# Altium integrated library NSC Comparator.IntLib: 93 symbols (part 2 of 3)
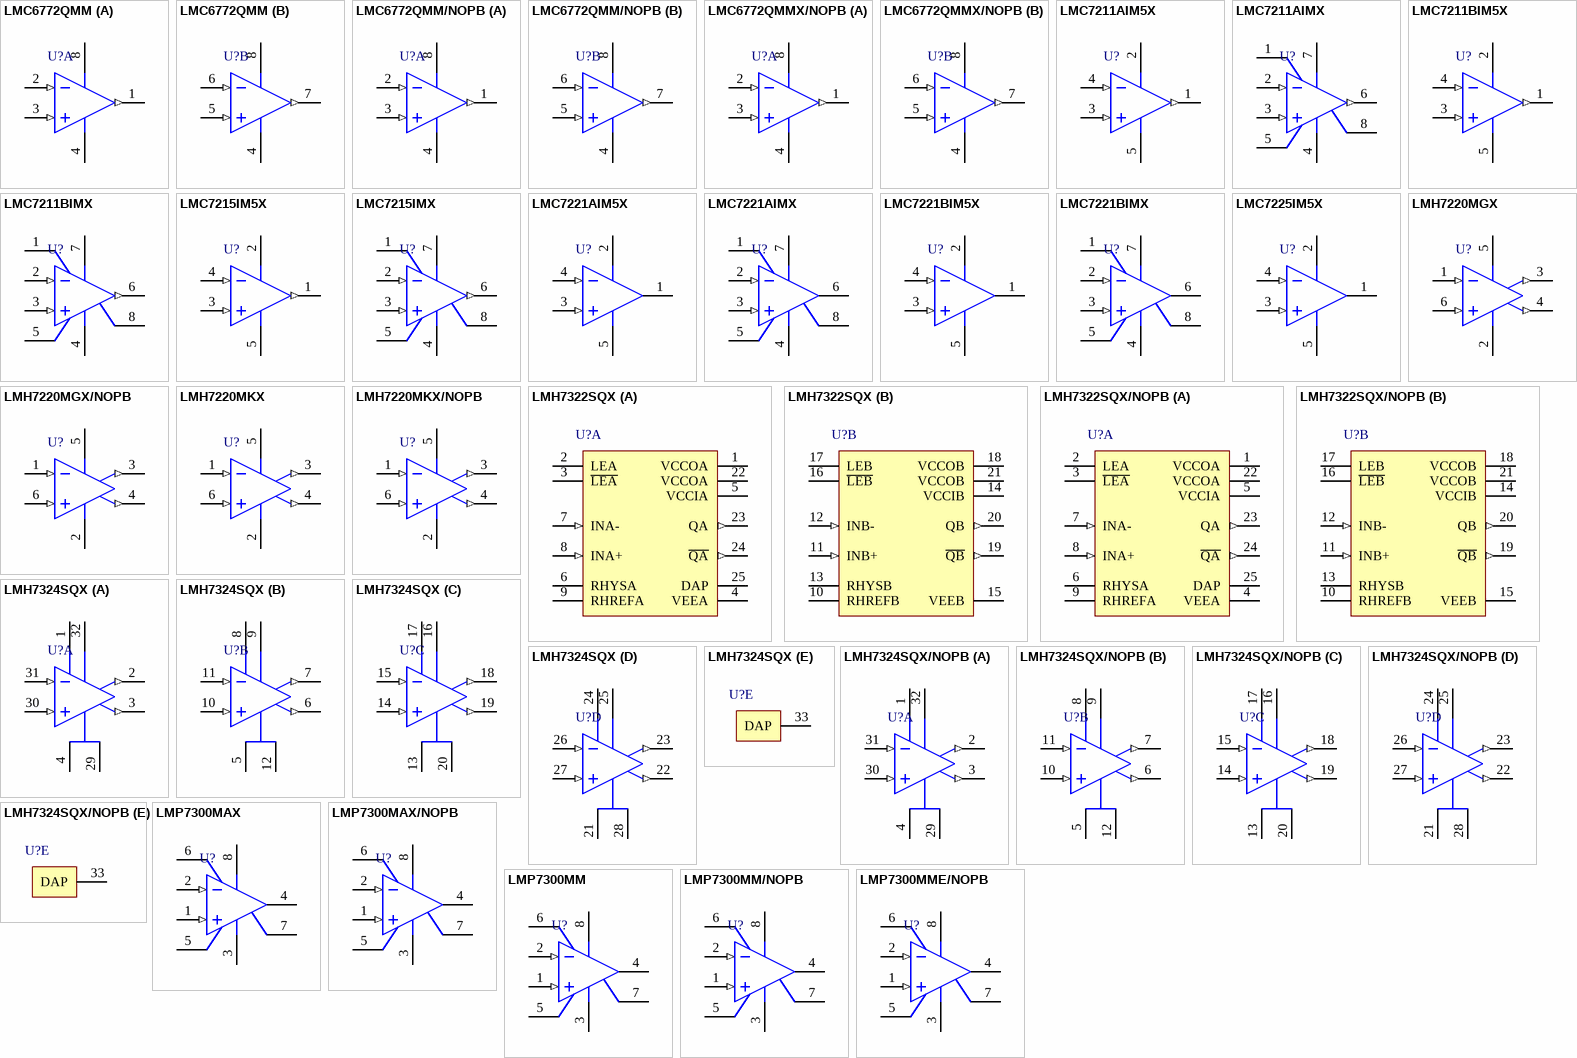
[diagram p5: symbols LMC6772QMM to LMP7300MME/NOPB]

## LMC7211BIMX
designator U?
Tiny CMOS Comparator with Rail-to-Rail Input, 8-pin Narrow SOIC; PartNumber: LMC7211BIMX; Manufacturer: National Semiconductor; PackageTopMarking: NSZXTT*LMC72*11BIM; PowerWise: N; Published: 4-Dec-2008; DatasheetVersion: Jan-2010; PackageVersion: revM, May-2009; PackageReference: M08A; Publisher: Altium Limited; PackageDescription: SOIC Narrow, 4.9 x 3.9 x 1.45mm, 8 Lead, 1.27mm Pitch; RoHS: N; PinCount: 8; CompType: Comparator; Code_JEDEC: MS-012-AA; Code_IPC: SOIC127P600-8; ComponentLink1Description: LMC7211 Datasheet; ComponentLink1URL: http://www.national.com/ds/LM/LMC7211.pdf; ComponentLink2Description: LMC7211 Web Page; ComponentLink2URL: http://www.national.com/pf/LM/LMC7211.html; ComponentLink3Description: M08A Package Page; ComponentLink3URL: http://www.national.com/packaging/folders/m08a.html
footprint M08A_N (SOIC, 8-Leads, Body 4.9x3.9mm, Pitch 1.27mm, IPC Medium Density)
footprint M08A_L (SOIC, 8-Leads, Body 4.9x3.9mm, Pitch 1.27mm, IPC High Density)
footprint M08A_M (SOIC, 8-Leads, Body 4.9x3.9mm, Pitch 1.27mm, IPC Low Density)
pins: 1 NC, 2 IN- (in), 3 IN+ (in), 4 V- (power), 5 NC, 6 OUT (out), 7 V+ (power), 8 NC

## LMC7215IM5X
designator U?
Micro-Power, Rail-to-Rail CMOS Comparators with Open-Drain/Push-Pull Outputs, 5-pin SOT-23; PartNumber: LMC7215IM5X; Manufacturer: National Semiconductor; PackageTopMarking: C02B*XTT; PowerWise: Y; Published: 4-Dec-2008; DatasheetVersion: Sep-2006; PackageVersion: revD, Aug-2008; PackageReference: MF05A; Publisher: Altium Limited; PackageDescription: Molded SOT-23, .115 x .063 x .040 in Body, 5 Lead, .0375 in Pitch; RoHS: N; PinCount: 5; CompType: Comparator; ComponentLink1Description: LMC7215 Datasheet; ComponentLink1URL: http://www.national.com/ds/LM/LMC7215.pdf; ComponentLink2Description: LMC7215 Web Page; ComponentLink2URL: http://www.national.com/pf/LM/LMC7215.html; ComponentLink3Description: MF05A Package Page; ComponentLink3URL: http://www.national.com/packaging/folders/mf05a.html
footprint MF05A_N (SOT23, 5-Leads, Body 2.9x1.6mm, Pitch 0.95mm, Lead Span 2.8mm, IPC Medium Density)
footprint MF05A_L (SOT23, 5-Leads, Body 2.9x1.6mm, Pitch 0.95mm, Lead Span 2.8mm, IPC High Density)
footprint MF05A_M (SOT23, 5-Leads, Body 2.9x1.6mm, Pitch 0.95mm, Lead Span 2.8mm, IPC Low Density)
pins: 1 OUT (out), 2 V+ (power), 3 IN+ (in), 4 IN- (in), 5 V- (power)

## LMC7215IMX
designator U?
Micro-Power, Rail-to-Rail CMOS Comparators with Open-Drain/Push-Pull Outputs, 8-pin Narrow SOIC; PartNumber: LMC7215IMX; Manufacturer: National Semiconductor; PackageTopMarking: NSZXTT*LMC72*15IM; PowerWise: Y; Published: 4-Dec-2008; DatasheetVersion: Sep-2006; PackageVersion: revM, May-2009; PackageReference: M08A; Publisher: Altium Limited; PackageDescription: SOIC Narrow, 4.9 x 3.9 x 1.45mm, 8 Lead, 1.27mm Pitch; RoHS: N; PinCount: 8; CompType: Comparator; Code_JEDEC: MS-012-AA; Code_IPC: SOIC127P600-8; ComponentLink1Description: LMC7215 Datasheet; ComponentLink1URL: http://www.national.com/ds/LM/LMC7215.pdf; ComponentLink2Description: LMC7215 Web Page; ComponentLink2URL: http://www.national.com/pf/LM/LMC7215.html; ComponentLink3Description: M08A Package Page; ComponentLink3URL: http://www.national.com/packaging/folders/m08a.html
footprint M08A_N (SOIC, 8-Leads, Body 4.9x3.9mm, Pitch 1.27mm, IPC Medium Density)
footprint M08A_L (SOIC, 8-Leads, Body 4.9x3.9mm, Pitch 1.27mm, IPC High Density)
footprint M08A_M (SOIC, 8-Leads, Body 4.9x3.9mm, Pitch 1.27mm, IPC Low Density)
pins: 1 NC, 2 IN- (in), 3 IN+ (in), 4 V- (power), 5 NC, 6 OUT (out), 7 V+ (power), 8 NC

## LMC7221AIM5X
designator U?
Tiny CMOS Comparator with Rail-to-Rail Input and Open Drain Output, 5-pin SOT-23; PartNumber: LMC7221AIM5X; Manufacturer: National Semiconductor; PackageTopMarking: C01A*XTT; PowerWise: N; Published: 4-Dec-2008; DatasheetVersion: Sep-2006; PackageVersion: revD, Aug-2008; PackageReference: MF05A; Publisher: Altium Limited; PackageDescription: Molded SOT-23, .115 x .063 x .040 in Body, 5 Lead, .0375 in Pitch; RoHS: N; PinCount: 5; CompType: Comparator; ComponentLink1Description: LMC7221 Datasheet; ComponentLink1URL: http://www.national.com/ds/LM/LMC7221.pdf; ComponentLink2Description: LMC7221 Web Page; ComponentLink2URL: http://www.national.com/pf/LM/LMC7221.html; ComponentLink3Description: MF05A Package Page; ComponentLink3URL: http://www.national.com/packaging/folders/mf05a.html
footprint MF05A_N (SOT23, 5-Leads, Body 2.9x1.6mm, Pitch 0.95mm, Lead Span 2.8mm, IPC Medium Density)
footprint MF05A_L (SOT23, 5-Leads, Body 2.9x1.6mm, Pitch 0.95mm, Lead Span 2.8mm, IPC High Density)
footprint MF05A_M (SOT23, 5-Leads, Body 2.9x1.6mm, Pitch 0.95mm, Lead Span 2.8mm, IPC Low Density)
pins: 1 OUT (oc), 2 V+ (power), 3 IN+ (in), 4 IN- (in), 5 V- (power)

## LMC7221AIMX
designator U?
Tiny CMOS Comparator with Rail-to-Rail Input and Open Drain Output, 8-pin Narrow SOIC; PartNumber: LMC7221AIMX; Manufacturer: National Semiconductor; PackageTopMarking: NSZXTT*LMC72*21AIM; PowerWise: N; Published: 4-Dec-2008; DatasheetVersion: Sep-2006; PackageVersion: revM, May-2009; PackageReference: M08A; Publisher: Altium Limited; PackageDescription: SOIC Narrow, 4.9 x 3.9 x 1.45mm, 8 Lead, 1.27mm Pitch; RoHS: N; PinCount: 8; CompType: Comparator; Code_JEDEC: MS-012-AA; Code_IPC: SOIC127P600-8; ComponentLink1Description: LMC7221 Datasheet; ComponentLink1URL: http://www.national.com/ds/LM/LMC7221.pdf; ComponentLink2Description: LMC7221 Web Page; ComponentLink2URL: http://www.national.com/pf/LM/LMC7221.html; ComponentLink3Description: M08A Package Page; ComponentLink3URL: http://www.national.com/packaging/folders/m08a.html
footprint M08A_N (SOIC, 8-Leads, Body 4.9x3.9mm, Pitch 1.27mm, IPC Medium Density)
footprint M08A_L (SOIC, 8-Leads, Body 4.9x3.9mm, Pitch 1.27mm, IPC High Density)
footprint M08A_M (SOIC, 8-Leads, Body 4.9x3.9mm, Pitch 1.27mm, IPC Low Density)
pins: 1 NC, 2 IN- (in), 3 IN+ (in), 4 V- (power), 5 NC, 6 OUT (oc), 7 V+ (power), 8 NC

## LMC7221BIM5X
designator U?
Tiny CMOS Comparator with Rail-to-Rail Input and Open Drain Output, 5-pin SOT-23; PartNumber: LMC7221BIM5X; Manufacturer: National Semiconductor; PackageTopMarking: C01B*XTT; PowerWise: N; Published: 4-Dec-2008; DatasheetVersion: Sep-2006; PackageVersion: revD, Aug-2008; PackageReference: MF05A; Publisher: Altium Limited; PackageDescription: Molded SOT-23, .115 x .063 x .040 in Body, 5 Lead, .0375 in Pitch; RoHS: N; PinCount: 5; CompType: Comparator; ComponentLink1Description: LMC7221 Datasheet; ComponentLink1URL: http://www.national.com/ds/LM/LMC7221.pdf; ComponentLink2Description: LMC7221 Web Page; ComponentLink2URL: http://www.national.com/pf/LM/LMC7221.html; ComponentLink3Description: MF05A Package Page; ComponentLink3URL: http://www.national.com/packaging/folders/mf05a.html
footprint MF05A_N (SOT23, 5-Leads, Body 2.9x1.6mm, Pitch 0.95mm, Lead Span 2.8mm, IPC Medium Density)
footprint MF05A_L (SOT23, 5-Leads, Body 2.9x1.6mm, Pitch 0.95mm, Lead Span 2.8mm, IPC High Density)
footprint MF05A_M (SOT23, 5-Leads, Body 2.9x1.6mm, Pitch 0.95mm, Lead Span 2.8mm, IPC Low Density)
pins: 1 OUT (oc), 2 V+ (power), 3 IN+ (in), 4 IN- (in), 5 V- (power)

## LMC7221BIMX
designator U?
Tiny CMOS Comparator with Rail-to-Rail Input and Open Drain Output, 8-pin Narrow SOIC; PartNumber: LMC7221BIMX; Manufacturer: National Semiconductor; PackageTopMarking: NSZXTT*LMC72*21BIM; PowerWise: N; Published: 4-Dec-2008; DatasheetVersion: Sep-2006; PackageVersion: revM, May-2009; PackageReference: M08A; Publisher: Altium Limited; PackageDescription: SOIC Narrow, 4.9 x 3.9 x 1.45mm, 8 Lead, 1.27mm Pitch; Supplier 1: Digi-Key; Supplier Part Number 1: LMC7221BIMX-ND; RoHS: N; PinCount: 8; CompType: Comparator; Code_JEDEC: MS-012-AA; Code_IPC: SOIC127P600-8; ComponentLink1Description: LMC7221 Datasheet; ComponentLink1URL: http://www.national.com/ds/LM/LMC7221.pdf; ComponentLink2Description: LMC7221 Web Page; ComponentLink2URL: http://www.national.com/pf/LM/LMC7221.html; ComponentLink3Description: M08A Package Page; ComponentLink3URL: http://www.national.com/packaging/folders/m08a.html
footprint M08A_N (SOIC, 8-Leads, Body 4.9x3.9mm, Pitch 1.27mm, IPC Medium Density)
footprint M08A_L (SOIC, 8-Leads, Body 4.9x3.9mm, Pitch 1.27mm, IPC High Density)
footprint M08A_M (SOIC, 8-Leads, Body 4.9x3.9mm, Pitch 1.27mm, IPC Low Density)
pins: 1 NC, 2 IN- (in), 3 IN+ (in), 4 V- (power), 5 NC, 6 OUT (oc), 7 V+ (power), 8 NC

## LMC7225IM5X
designator U?
Micro-Power, Rail-to-Rail CMOS Comparators with Open-Drain/Push-Pull Outputs, 5-pin SOT-23; PartNumber: LMC7225IM5X; Manufacturer: National Semiconductor; PackageTopMarking: C03B*XTT; PowerWise: Y; Published: 4-Dec-2008; DatasheetVersion: Sep-2006; PackageVersion: revD, Aug-2008; PackageReference: MF05A; Publisher: Altium Limited; PackageDescription: Molded SOT-23, .115 x .063 x .040 in Body, 5 Lead, .0375 in Pitch; RoHS: N; PinCount: 5; CompType: Comparator; ComponentLink1Description: LMC7225 Datasheet; ComponentLink1URL: http://www.national.com/ds/LM/LMC7225.pdf; ComponentLink2Description: LMC7225 Web Page; ComponentLink2URL: http://www.national.com/pf/LM/LMC7225.html; ComponentLink3Description: MF05A Package Page; ComponentLink3URL: http://www.national.com/packaging/folders/mf05a.html
footprint MF05A_N (SOT23, 5-Leads, Body 2.9x1.6mm, Pitch 0.95mm, Lead Span 2.8mm, IPC Medium Density)
footprint MF05A_L (SOT23, 5-Leads, Body 2.9x1.6mm, Pitch 0.95mm, Lead Span 2.8mm, IPC High Density)
footprint MF05A_M (SOT23, 5-Leads, Body 2.9x1.6mm, Pitch 0.95mm, Lead Span 2.8mm, IPC Low Density)
pins: 1 OUT (oc), 2 V+ (power), 3 IN+ (in), 4 IN- (in), 5 V- (power)

## LMH7220MGX
designator U?
High Speed Comparator with LVDS Output, 6-pin SC-70; PartNumber: LMH7220MGX; Manufacturer: National Semiconductor; PackageTopMarking: C38*XTT; PowerWise: Y; Published: 4-Dec-2008; DatasheetVersion: May-2008; PackageVersion: revB, Jun-2007; PackageReference: MAA06A; Publisher: Altium Limited; PackageDescription: Molded SC-70, 2 x 1.25 x .9mm, 6 Lead, 0.65mm Pitch; RoHS: Y; PinCount: 6; CompType: Comparator; ComponentLink1Description: LMH7220 Datasheet; ComponentLink1URL: http://www.national.com/ds/LM/LMH7220.pdf; ComponentLink2Description: LMH7220  Web Page; ComponentLink2URL: http://www.national.com/pf/LM/LMH7220.html; ComponentLink3Description: MAA06A Package Page; ComponentLink3URL: http://www.national.com/packaging/folders/maa06a.html
footprint MAA06A_N (SOT363, 6-Leads, Body 2x1.3mm, Pitch 0.65mm, Lead Span 2.1mm, IPC Medium Density)
footprint MAA06A_L (SOT363, 6-Leads, Body 2x1.3mm, Pitch 0.65mm, Lead Span 2.1mm, IPC High Density)
footprint MAA06A_M (SOT363, 6-Leads, Body 2x1.3mm, Pitch 0.65mm, Lead Span 2.1mm, IPC Low Density)
pins: 1 IN- (in), 2 GND (power), 3 OUT ~{Q} (out), 4  OUT Q (out), 5 VCC (power), 6 IN+ (in)

## LMH7220MGX/NOPB
designator U?
High Speed Comparator with LVDS Output, 6-pin SC-70, Pb-Free; PartNumber: LMH7220MGX/NOPB; Manufacturer: National Semiconductor; PackageTopMarking: C38*XTT; PowerWise: Y; Published: 1-Mar-2010; DatasheetVersion: May-2008; PackageVersion: revB, Jun-2007; PackageReference: MAA06A; Publisher: Altium Limited; PackageDescription: Molded SC-70, 2 x 1.25 x .9mm, 6 Lead, 0.65mm Pitch; Supplier 1: Digi-Key; Supplier Part Number 1: LMH7220MGX-ND; RoHS: Y; PinCount: 6; CompType: Comparator; ComponentLink1Description: LMH7220 Datasheet; ComponentLink1URL: http://www.national.com/ds/LM/LMH7220.pdf; ComponentLink2Description: LMH7220 Web Page; ComponentLink2URL: http://www.national.com/pf/LM/LMH7220.html; ComponentLink3Description: MAA06A Package Page; ComponentLink3URL: http://www.national.com/packaging/folders/maa06a.html
footprint MAA06A_N (SOT363, 6-Leads, Body 2x1.3mm, Pitch 0.65mm, Lead Span 2.1mm, IPC Medium Density)
footprint MAA06A_L (SOT363, 6-Leads, Body 2x1.3mm, Pitch 0.65mm, Lead Span 2.1mm, IPC High Density)
footprint MAA06A_M (SOT363, 6-Leads, Body 2x1.3mm, Pitch 0.65mm, Lead Span 2.1mm, IPC Low Density)
pins: 1 IN- (in), 2 GND (power), 3 OUT ~{Q} (out), 4  OUT Q (out), 5 VCC (power), 6 IN+ (in)

## LMH7220MKX
designator U?
High Speed Comparator with LVDS Output, 6-pin Tiny SOT23; PartNumber: LMH7220MKX; Manufacturer: National Semiconductor; PackageTopMarking: C29A*XTT; PowerWise: Y; Published: 4-Dec-2008; DatasheetVersion: May-2008; PackageVersion: revE, Nov-2008; PackageReference: MK06A; Publisher: Altium Limited; PackageDescription: Molded TSOT, 2.97 x 1.65 x 0.87mm Body, 6 Lead, 0.95mm Pitch; RoHS: N; PinCount: 6; CompType: Comparator; Code_JEDEC: MO-193-AA; Code_IPC: SOT26A-6; ComponentLink1Description: LMH7220 Datasheet; ComponentLink1URL: http://www.national.com/ds/LM/LMH7220.pdf; ComponentLink2Description: LMH7220 Web Page; ComponentLink2URL: http://www.national.com/pf/LM/LMH7220.html; ComponentLink3Description: MK06A Package Page; ComponentLink3URL: http://www.national.com/packaging/folders/mk06a.html
footprint MK06A_N (SOT23, 6-Leads, Body 3.0x1.7mm, Pitch 0.95mm, Lead Span 2.9mm, IPC Medium Density)
footprint MK06A_L (SOT23, 6-Leads, Body 3.0x1.7mm, Pitch 0.95mm, Lead Span 2.9mm, IPC High Density)
footprint MK06A_M (SOT23, 6-Leads, Body 3.0x1.7mm, Pitch 0.95mm, Lead Span 2.9mm, IPC Low Density)
pins: 1 IN- (in), 2 GND (power), 3 OUT ~{Q} (out), 4  OUT Q (out), 5 VCC (power), 6 IN+ (in)

## LMH7220MKX/NOPB
designator U?
High Speed Comparator with LVDS Output, 6-pin Tiny SOT23, Pb-Free; PartNumber: LMH7220MKX/NOPB; Manufacturer: National Semiconductor; PackageTopMarking: C29A*XTT; PowerWise: Y; Published: 1-Mar-2010; DatasheetVersion: May-2008; PackageVersion: revE, Nov-2008; PackageReference: MK06A; Publisher: Altium Limited; PackageDescription: Molded TSOT, 2.97 x 1.65 x 0.87mm Body, 6 Lead, 0.95mm Pitch; Supplier 1: Digi-Key; Supplier Part Number 1: LMH7220MKX-ND; RoHS: Y; PinCount: 6; CompType: Comparator; Code_JEDEC: MO-193-AA; Code_IPC: SOT26A-6; ComponentLink1Description: LMH7220 Datasheet; ComponentLink1URL: http://www.national.com/ds/LM/LMH7220.pdf; ComponentLink2Description: LMH7220 Web Page; ComponentLink2URL: http://www.national.com/pf/LM/LMH7220.html; ComponentLink3Description: MK06A Package Page; ComponentLink3URL: http://www.national.com/packaging/folders/mk06a.html
footprint MK06A_N (SOT23, 6-Leads, Body 3.0x1.7mm, Pitch 0.95mm, Lead Span 2.9mm, IPC Medium Density)
footprint MK06A_L (SOT23, 6-Leads, Body 3.0x1.7mm, Pitch 0.95mm, Lead Span 2.9mm, IPC High Density)
footprint MK06A_M (SOT23, 6-Leads, Body 3.0x1.7mm, Pitch 0.95mm, Lead Span 2.9mm, IPC Low Density)
pins: 1 IN- (in), 2 GND (power), 3 OUT ~{Q} (out), 4  OUT Q (out), 5 VCC (power), 6 IN+ (in)

## LMH7322SQX
designator U?
Dual 700 ps High Speed Comparator with RSPECL Outputs, 25-pin LLP; PartNumber: LMH7322SQX; Manufacturer: National Semiconductor; PackageTopMarking: NS*UZXYTT*L7322SQ; PowerWise: Y; Published: 4-Dec-2008; DatasheetVersion: Jan-2010; PackageVersion: revB, Aug-2003; PackageReference: SQA24A; Publisher: Altium Limited; PackageDescription: LLP, Plastic, Quad, 4 x 4 x 0.8mm Body, 24 Lead, 0.5mm Pitch, No Pullback; RoHS: Y; PinCount: 24; CompType: Comparator; Code_JEDEC: MO-220-WGGD-6; ComponentLink1Description: LMH7322 Datasheet; ComponentLink1URL: http://www.national.com/ds/LM/LMH7322.pdf; ComponentLink2Description: LMH7322  Web Page; ComponentLink2URL: http://www.national.com/pf/LM/LMH7322.html; ComponentLink3Description: SQA24A Package Page; ComponentLink3URL: http://www.national.com/packaging/folders/sqa24a.html
footprint SQA24A (QFN, 24-Leads, Body 4x4mm, Pitch 0.5mm, NSC Recommended)
part A pins: 1 VCCOA (power), 2 LEA, 3 ~{LEA}, 4 VEEA (power), 5 VCCIA (power), 6 RHYSA, 7 INA- (in), 8 INA+ (in), 9 RHREFA, 22 VCCOA (power), 23 QA (out), 24 ~{QA} (out), 25 DAP (power)
part B pins: 10 RHREFB, 11 INB+ (in), 12 INB- (in), 13 RHYSB, 14 VCCIB (power), 15 VEEB (power), 16 ~{LEB}, 17 LEB, 18 VCCOB (power), 19 ~{QB} (out), 20 QB (out), 21 VCCOB (power)

## LMH7322SQX/NOPB
designator U?
Dual 700 ps High Speed Comparator with RSPECL Outputs, 24-pin LLP, Pb-Free; PartNumber: LMH7322SQX/NOPB; Manufacturer: National Semiconductor; PackageTopMarking: NS*UZXYTT*L7322SQ; PowerWise: Y; Published: 1-Mar-2010; DatasheetVersion: Jan-2010; PackageVersion: revB, Aug-2003; PackageReference: SQA24A; Publisher: Altium Limited; PackageDescription: LLP, Plastic, Quad, 4 x 4 x 0.8mm Body, 24 Lead, 0.5mm Pitch, No Pullback; Supplier 1: Digi-Key; Supplier Part Number 1: LMH7322SQX-ND; RoHS: Y; PinCount: 24; CompType: Comparator; Code_JEDEC: MO-220-WGGD-6; ComponentLink1Description: LMH7322 Datasheet; ComponentLink1URL: http://www.national.com/ds/LM/LMH7322.pdf; ComponentLink2Description: LMH7322 Web Page; ComponentLink2URL: http://www.national.com/pf/LM/LMH7322.html; ComponentLink3Description: SQA24A Package Page; ComponentLink3URL: http://www.national.com/packaging/folders/sqa24a.html
footprint SQA24A (QFN, 24-Leads, Body 4x4mm, Pitch 0.5mm, NSC Recommended)
part A pins: 1 VCCOA (power), 2 LEA, 3 ~{LEA}, 4 VEEA (power), 5 VCCIA (power), 6 RHYSA, 7 INA- (in), 8 INA+ (in), 9 RHREFA, 22 VCCOA (power), 23 QA (out), 24 ~{QA} (out), 25 DAP (power)
part B pins: 10 RHREFB, 11 INB+ (in), 12 INB- (in), 13 RHYSB, 14 VCCIB (power), 15 VEEB (power), 16 ~{LEB}, 17 LEB, 18 VCCOB (power), 19 ~{QB} (out), 20 QB (out), 21 VCCOB (power)

## LMH7324SQX
designator U?
Quad 700 ps High Speed Comparator with RSPECL Outputs, 33-pin LLP; PartNumber: LMH7324SQX; Manufacturer: National Semiconductor; PackageTopMarking: NS*UZXYTT*L7324SQ; PowerWise: Y; Published: 4-Dec-2008; DatasheetVersion: Jan-2010; PackageVersion: revB, Oct-2009; PackageReference: SQA32A; Publisher: Altium Limited; PackageDescription: LLP, Quad, 5 x 5 x 0.8mm, 32 Lead, 0.5mm Pitch, No Pullback 3.1 x 3.1 Exposed Pad; RoHS: Y; PinCount: 32; CompType: Comparator; ComponentLink1Description: LMH7324 Datasheet; ComponentLink1URL: http://www.national.com/ds/LM/LMH7324.pdf; ComponentLink2Description: LMH7324  Web Page; ComponentLink2URL: http://www.national.com/pf/LM/LMH7324.html; ComponentLink3Description: SQA32A Package Page; ComponentLink3URL: http://www.national.com/packaging/folders/sqa32a.html
footprint SQA32A (QFN, 32-Leads, Body 5x5mm, Pitch 0.5mm, NSC Recommended)
part A pins: 1 VCCOA (power), 2 ~{QA} (out), 3 QA (out), 4 VEEA (power), 29 VEEA (power), 30 INA+ (in), 31 INA- (in), 32 VCCIA (power)
part B pins: 5 VEEB (power), 6 QB (out), 7 ~{QB} (out), 8 VCCOB (power), 9 VCCIB (power), 10 INB+ (in), 11 INB- (in), 12 VEEB (power)
part C pins: 13 VEEC (power), 14 INC+ (in), 15 INC- (in), 16 VCCIC (power), 17 VCCOC (power), 18 ~{QC} (out), 19 QC (out), 20 VEEC (power)
part D pins: 21 VEED (power), 22 QD (out), 23 ~{QD} (out), 24 VCCOD (power), 25 VCCID (power), 26 IND- (in), 27 IND+ (in), 28 VEED (power)
part E pins: 33 DAP

## LMH7324SQX/NOPB
designator U?
Quad 700 ps High Speed Comparator with RSPECL Outputs, 32-pin LLP, Pb-Free; PartNumber: LMH7324SQX/NOPB; Manufacturer: National Semiconductor; PackageTopMarking: NS*UZXYTT*L7324SQ; PowerWise: Y; Published: 1-Mar-2010; DatasheetVersion: Jan-2010; PackageVersion: revB, Oct-2009; PackageReference: SQA32A; Publisher: Altium Limited; PackageDescription: LLP, Quad, 5 x 5 x 0.8mm, 32 Lead, 0.5mm Pitch, No Pullback 3.1 x 3.1 Exposed Pad; Supplier 1: Digi-Key; Supplier Part Number 1: LMH7324SQX-ND; RoHS: Y; PinCount: 32; CompType: Comparator; ComponentLink1Description: LMH7324 Datasheet; ComponentLink1URL: http://www.national.com/ds/LM/LMH7324.pdf; ComponentLink2Description: LMH7324 Web Page; ComponentLink2URL: http://www.national.com/pf/LM/LMH7324.html; ComponentLink3Description: SQA32A Package Page; ComponentLink3URL: http://www.national.com/packaging/folders/sqa32a.html
footprint SQA32A (QFN, 32-Leads, Body 5x5mm, Pitch 0.5mm, NSC Recommended)
part A pins: 1 VCCOA (power), 2 ~{QA} (out), 3 QA (out), 4 VEEA (power), 29 VEEA (power), 30 INA+ (in), 31 INA- (in), 32 VCCIA (power)
part B pins: 5 VEEB (power), 6 QB (out), 7 ~{QB} (out), 8 VCCOB (power), 9 VCCIB (power), 10 INB+ (in), 11 INB- (in), 12 VEEB (power)
part C pins: 13 VEEC (power), 14 INC+ (in), 15 INC- (in), 16 VCCIC (power), 17 VCCOC (power), 18 ~{QC} (out), 19 QC (out), 20 VEEC (power)
part D pins: 21 VEED (power), 22 QD (out), 23 ~{QD} (out), 24 VCCOD (power), 25 VCCID (power), 26 IND- (in), 27 IND+ (in), 28 VEED (power)
part E pins: 33 DAP

## LMP7300MAX
designator U?
Micropower Precision Comparator and Precision Reference with Adjustable Hysteresis, 8-pin Narrow SOIC; PartNumber: LMP7300MAX; Manufacturer: National Semiconductor; PackageTopMarking: NSZXTT*LMP73*00MA; PowerWise: Y; Published: 4-Dec-2008; DatasheetVersion: Sep-2007; PackageVersion: revM, May-2009; PackageReference: M08A; Publisher: Altium Limited; PackageDescription: SOIC Narrow, 4.9 x 3.9 x 1.45mm, 8 Lead, 1.27mm Pitch; RoHS: Y; PinCount: 8; CompType: Comparator; Code_JEDEC: MS-012-AA; Code_IPC: SOIC127P600-8; ComponentLink1Description: LMP7300 Datasheet; ComponentLink1URL: http://www.national.com/ds/LM/LMP7300.pdf; ComponentLink2Description: LMP7300  Web Page; ComponentLink2URL: http://www.national.com/pf/LM/LMP7300.html; ComponentLink3Description: M08A Package Page; ComponentLink3URL: http://www.national.com/packaging/folders/m08a.html
footprint M08A_N (SOIC, 8-Leads, Body 4.9x3.9mm, Pitch 1.27mm, IPC Medium Density)
footprint M08A_L (SOIC, 8-Leads, Body 4.9x3.9mm, Pitch 1.27mm, IPC High Density)
footprint M08A_M (SOIC, 8-Leads, Body 4.9x3.9mm, Pitch 1.27mm, IPC Low Density)
pins: 1 IN+ (in), 2 IN- (in), 3 GND (power), 4 OUT (oc), 5 HYSTN, 6 HYSTP, 7 REF (power), 8 V+ (power)

## LMP7300MAX/NOPB
designator U?
Micropower Precision Comparator and Precision Reference with Adjustable Hysteresis, 8-pin Narrow SOIC, Pb-Free; PartNumber: LMP7300MAX/NOPB; Manufacturer: National Semiconductor; PackageTopMarking: NSZXTT*LMP73*00MA; PowerWise: Y; Published: 1-Mar-2010; DatasheetVersion: Sep-2007; PackageVersion: revM, May-2009; PackageReference: M08A; Publisher: Altium Limited; PackageDescription: SOIC Narrow, 4.9 x 3.9 x 1.45mm, 8 Lead, 1.27mm Pitch; Supplier 1: Digi-Key; Supplier Part Number 1: LMP7300MAX-ND; RoHS: Y; PinCount: 8; CompType: Comparator; Code_JEDEC: MS-012-AA; Code_IPC: SOIC127P600-8; ComponentLink1Description: LMP7300 Datasheet; ComponentLink1URL: http://www.national.com/ds/LM/LMP7300.pdf; ComponentLink2Description: LMP7300 Web Page; ComponentLink2URL: http://www.national.com/pf/LM/LMP7300.html; ComponentLink3Description: M08A Package Page; ComponentLink3URL: http://www.national.com/packaging/folders/m08a.html
footprint M08A_N (SOIC, 8-Leads, Body 4.9x3.9mm, Pitch 1.27mm, IPC Medium Density)
footprint M08A_L (SOIC, 8-Leads, Body 4.9x3.9mm, Pitch 1.27mm, IPC High Density)
footprint M08A_M (SOIC, 8-Leads, Body 4.9x3.9mm, Pitch 1.27mm, IPC Low Density)
simulation model LMP7300 (SUBCKT)
pins: 1 IN+ (in), 2 IN- (in), 3 GND (power), 4 OUT (oc), 5 HYSTN, 6 HYSTP, 7 REF (power), 8 V+ (power)

## LMP7300MM
designator U?
Micropower Precision Comparator and Precision Reference with Adjustable Hysteresis, 8-pin Mini SOIC; PartNumber: LMP7300MM; Manufacturer: National Semiconductor; PackageTopMarking: ZXTT*C31A; PowerWise: N; Published: 29-May-2009; DatasheetVersion: Apr-2009; PackageVersion: revF, Apr-2008; PackageReference: MUA08A; Publisher: Altium Limited; PackageDescription: MINI SOIC, .118 x .118 x .034in, 8 Lead, .0256in Pitch; RoHS: Y; PinCount: 8; CompType: Comparator; Code_JEDEC: MO-187-AA; ComponentLink1Description: LMP7300 Datasheet; ComponentLink1URL: http://www.national.com/ds/LM/LMP7300.pdf; ComponentLink2Description: LMP7300 Web Page; ComponentLink2URL: http://www.national.com/pf/LM/LMP7300.html; ComponentLink3Description: MUA08A Package Page; ComponentLink3URL: http://www.national.com/packaging/folders/mua08a.html
footprint MUA08A_N (TSOP, 8-Leads, Body 3x3mm, Pitch 0.65mm, IPC Medium Density)
footprint MUA08A_L (TSOP, 8-Leads, Body 3x3mm, Pitch 0.65mm, IPC High Density)
footprint MUA08A_M (TSOP, 8-Leads, Body 3x3mm, Pitch 0.65mm, IPC Low Density)
simulation model LMP7300 (SUBCKT)
pins: 1 IN+ (in), 2 IN- (in), 3 GND (power), 4 OUT (oc), 5 HYSTN, 6 HYSTP, 7 REF (power), 8 V+ (power)

## LMP7300MM/NOPB
designator U?
Micropower Precision Comparator and Precision Reference with Adjustable Hysteresis, 8-pin Mini SOIC, Pb-Free; PartNumber: LMP7300MM/NOPB; Manufacturer: National Semiconductor; PackageTopMarking: ZXTT*C31A; PowerWise: N; Published: 1-Mar-2010; DatasheetVersion: Apr-2009; PackageVersion: revF, Apr-2008; PackageReference: MUA08A; Publisher: Altium Limited; PackageDescription: MINI SOIC, .118 x .118 x .034in, 8 Lead, .0256in Pitch; Supplier 1: Digi-Key; Supplier Part Number 1: LMP7300MM-ND; RoHS: Y; PinCount: 8; CompType: Comparator; Code_JEDEC: MO-187-AA; ComponentLink1Description: LMP7300 Datasheet; ComponentLink1URL: http://www.national.com/ds/LM/LMP7300.pdf; ComponentLink2Description: LMP7300 Web Page; ComponentLink2URL: http://www.national.com/pf/LM/LMP7300.html; ComponentLink3Description: MUA08A Package Page; ComponentLink3URL: http://www.national.com/packaging/folders/mua08a.html
footprint MUA08A_N (TSOP, 8-Leads, Body 3x3mm, Pitch 0.65mm, IPC Medium Density)
footprint MUA08A_L (TSOP, 8-Leads, Body 3x3mm, Pitch 0.65mm, IPC High Density)
footprint MUA08A_M (TSOP, 8-Leads, Body 3x3mm, Pitch 0.65mm, IPC Low Density)
simulation model LMP7300 (SUBCKT)
pins: 1 IN+ (in), 2 IN- (in), 3 GND (power), 4 OUT (oc), 5 HYSTN, 6 HYSTP, 7 REF (power), 8 V+ (power)

## LMP7300MME/NOPB
designator U?
Micropower Precision Comparator and Precision Reference with Adjustable Hysteresis, 8-pin Mini SOIC, Pb-Free; PartNumber: LMP7300MME/NOPB; Manufacturer: National Semiconductor; PackageTopMarking: ZXTT*C31A; PowerWise: N; Published: 1-Mar-2010; DatasheetVersion: Apr-2009; PackageVersion: revF, Apr-2008; PackageReference: MUA08A; Publisher: Altium Limited; PackageDescription: MINI SOIC, .118 x .118 x .034in, 8 Lead, .0256in Pitch; Supplier 1: Digi-Key; Supplier Part Number 1: LMP7300MMETR-ND; Supplier 2: Digi-Key; Supplier Part Number 2: LMP7300MMECT-ND; Supplier 3: Digi-Key; Supplier Part Number 3: LMP7300MMEDKR-ND; Supplier 4: Farnell; Supplier Part Number 4: 1735791; RoHS: Y; PinCount: 8; CompType: Comparator; Code_JEDEC: MO-187-AA; ComponentLink1Description: LMP7300 Datasheet; ComponentLink1URL: http://www.national.com/ds/LM/LMP7300.pdf; ComponentLink2Description: LMP7300 Web Page; ComponentLink2URL: http://www.national.com/pf/LM/LMP7300.html; ComponentLink3Description: MUA08A Package Page; ComponentLink3URL: http://www.national.com/packaging/folders/mua08a.html
footprint MUA08A_N (TSOP, 8-Leads, Body 3x3mm, Pitch 0.65mm, IPC Medium Density)
footprint MUA08A_L (TSOP, 8-Leads, Body 3x3mm, Pitch 0.65mm, IPC High Density)
footprint MUA08A_M (TSOP, 8-Leads, Body 3x3mm, Pitch 0.65mm, IPC Low Density)
simulation model LMP7300 (SUBCKT)
pins: 1 IN+ (in), 2 IN- (in), 3 GND (power), 4 OUT (oc), 5 HYSTN, 6 HYSTP, 7 REF (power), 8 V+ (power)

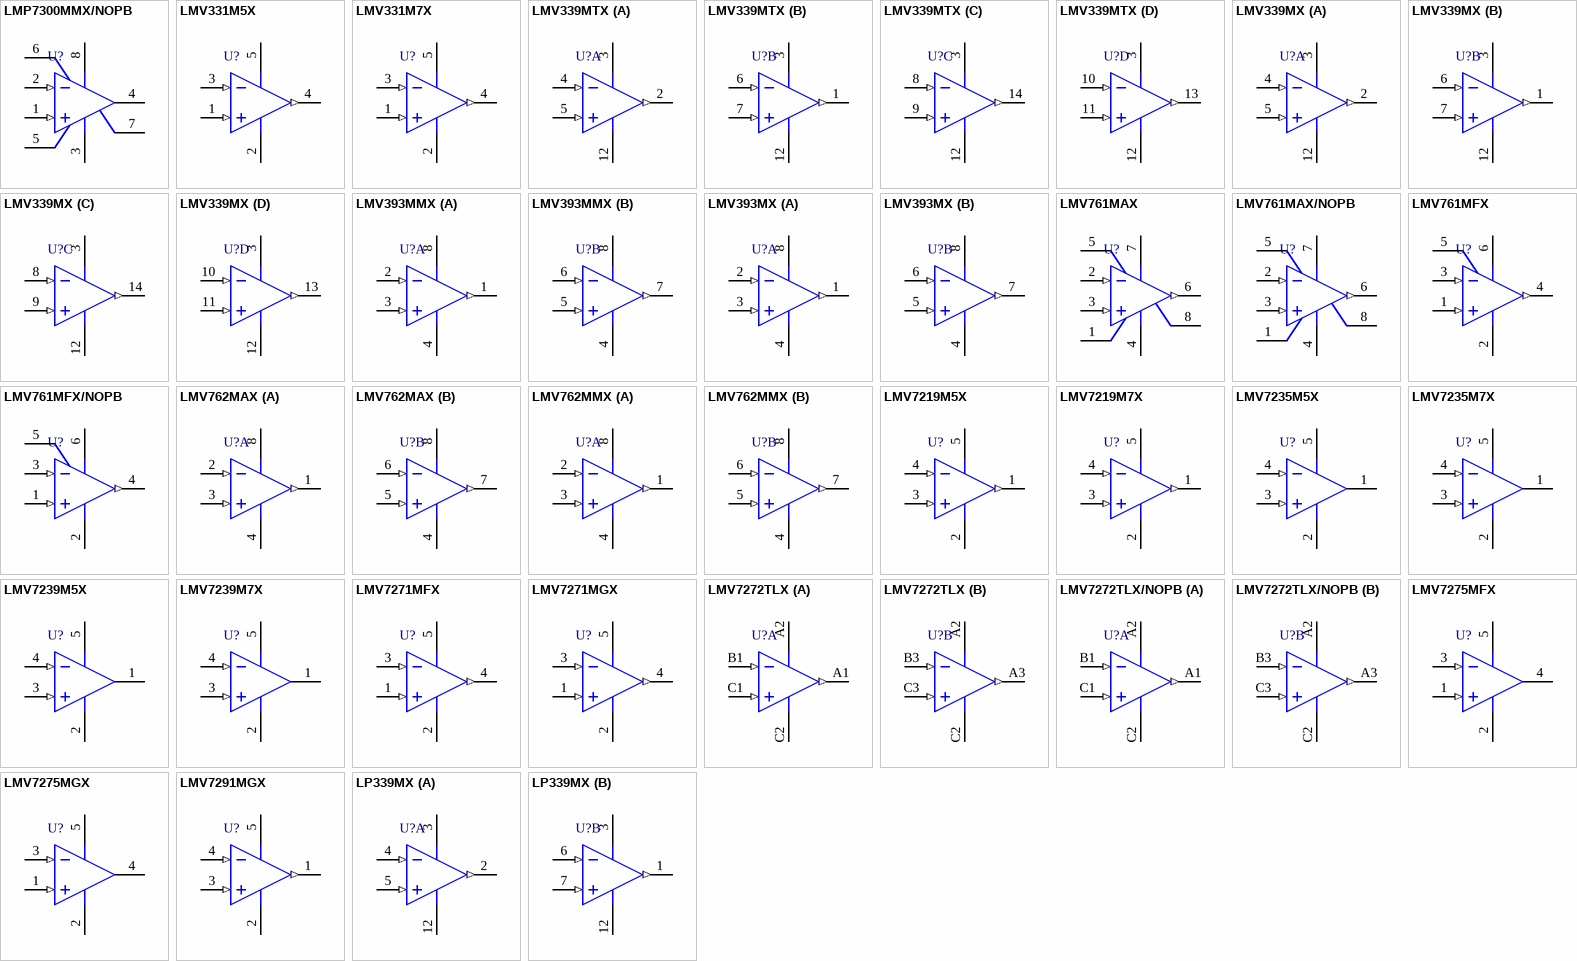
[diagram p3: symbols LMP7300MMX/NOPB to LP339MX]

## LMP7300MMX/NOPB
designator U?
Micropower Precision Comparator and Precision Reference with Adjustable Hysteresis, 8-pin Mini SOIC, Pb-Free; PartNumber: LMP7300MMX/NOPB; Manufacturer: National Semiconductor; PackageTopMarking: ZXTT*C31A; PowerWise: N; Published: 1-Mar-2010; DatasheetVersion: Apr-2009; PackageVersion: revF, Apr-2008; PackageReference: MUA08A; Publisher: Altium Limited; PackageDescription: MINI SOIC, .118 x .118 x .034in, 8 Lead, .0256in Pitch; Supplier 1: Digi-Key; Supplier Part Number 1: LMP7300MMX-ND; RoHS: Y; PinCount: 8; CompType: Comparator; Code_JEDEC: MO-187-AA; ComponentLink1Description: LMP7300 Datasheet; ComponentLink1URL: http://www.national.com/ds/LM/LMP7300.pdf; ComponentLink2Description: LMP7300 Web Page; ComponentLink2URL: http://www.national.com/pf/LM/LMP7300.html; ComponentLink3Description: MUA08A Package Page; ComponentLink3URL: http://www.national.com/packaging/folders/mua08a.html
footprint MUA08A_N (TSOP, 8-Leads, Body 3x3mm, Pitch 0.65mm, IPC Medium Density)
footprint MUA08A_L (TSOP, 8-Leads, Body 3x3mm, Pitch 0.65mm, IPC High Density)
footprint MUA08A_M (TSOP, 8-Leads, Body 3x3mm, Pitch 0.65mm, IPC Low Density)
simulation model LMP7300 (SUBCKT)
pins: 1 IN+ (in), 2 IN- (in), 3 GND (power), 4 OUT (oc), 5 HYSTN, 6 HYSTP, 7 REF (power), 8 V+ (power)

## LMV331M5X
designator U?
Single General Purpose, Low Voltage, Tiny Pack Comparator, 5-pin SOT-23; PartNumber: LMV331M5X; Manufacturer: National Semiconductor; PackageTopMarking: C12*XTT; PowerWise: Y; Published: 4-Dec-2008; DatasheetVersion: May-2007; PackageVersion: revD, Aug-2008; PackageReference: MF05A; Publisher: Altium Limited; PackageDescription: Molded SOT-23, .115 x .063 x .040 in Body, 5 Lead, .0375 in Pitch; Supplier 1: Farnell; Supplier Part Number 1: 4391603; RoHS: N; PinCount: 5; CompType: Comparator; ComponentLink1Description: LMV331 Datasheet; ComponentLink1URL: http://www.national.com/ds/LM/LMV331.pdf; ComponentLink2Description: LMV331 Web Page; ComponentLink2URL: http://www.national.com/pf/LM/LMV331.html; ComponentLink3Description: MF05A Package Page; ComponentLink3URL: http://www.national.com/packaging/folders/mf05a.html
footprint MF05A_N (SOT23, 5-Leads, Body 2.9x1.6mm, Pitch 0.95mm, Lead Span 2.8mm, IPC Medium Density)
footprint MF05A_L (SOT23, 5-Leads, Body 2.9x1.6mm, Pitch 0.95mm, Lead Span 2.8mm, IPC High Density)
footprint MF05A_M (SOT23, 5-Leads, Body 2.9x1.6mm, Pitch 0.95mm, Lead Span 2.8mm, IPC Low Density)
pins: 1 IN+ (in), 2 V- (power), 3 IN- (in), 4 OUT (out), 5 V+ (power)

## LMV331M7X
designator U?
Single General Purpose, Low Voltage, Tiny Pack Comparator, 5-pin SC-70; PartNumber: LMV331M7X; Manufacturer: National Semiconductor; PackageTopMarking: C13*XTT; PowerWise: Y; Published: 4-Dec-2008; DatasheetVersion: May-2007; PackageVersion: revD, Jun-2007; PackageReference: MAA05A; Publisher: Altium Limited; PackageDescription: Molded SC-70, 2 x 1.25 x .9mm, 5 Lead, 0.65mm Pitch; RoHS: N; PinCount: 5; CompType: Comparator; Code_JEITA: SC-88A; Code_JEDEC: MO-203-AA; Code_IPC: SOT353-5; ComponentLink1Description: LMV331 Datasheet; ComponentLink1URL: http://www.national.com/ds/LM/LMV331.pdf; ComponentLink2Description: LMV331 Web Page; ComponentLink2URL: http://www.national.com/pf/LM/LMV331.html; ComponentLink3Description: MAA05A Package Page; ComponentLink3URL: http://www.national.com/packaging/folders/maa05a.html
footprint MAA05A_N (SOT353, 5-Leads, Body 2x1.3mm, Pitch 0.65mm, Lead Span 2.1mm, IPC Medium Density)
footprint MAA05A_L (SOT353, 5-Leads, Body 2x1.3mm, Pitch 0.65mm, Lead Span 2.1mm, IPC High Density)
footprint MAA05A_M (SOT353, 5-Leads, Body 2x1.3mm, Pitch 0.65mm, Lead Span 2.1mm, IPC Low Density)
pins: 1 IN+ (in), 2 V- (power), 3 IN- (in), 4 OUT (out), 5 V+ (power)

## LMV339MTX
designator U?
Quad General Purpose, Low Voltage, Tiny Pack Comparator, 14-pin TSSOP; PartNumber: LMV339MTX; Manufacturer: National Semiconductor; PackageTopMarking: NSUZXYTT*LMV339*MT; PowerWise: Y; Published: 4-Dec-2008; DatasheetVersion: May-2007; PackageVersion: revD, Jun-2003; PackageReference: MTC14; Publisher: Altium Limited; PackageDescription: Molded TSSOP, JEDEC, 5 x 4.4 x 0.9mm Body, 14 Lead, 0.65mm Pitch; RoHS: N; PinCount: 14; CompType: Comparator; Code_JEDEC: MO-153-AB-1; ComponentLink1Description: LMV339 Datasheet; ComponentLink1URL: http://www.national.com/ds/LM/LMV339.pdf; ComponentLink2Description: LMV339 Web Page; ComponentLink2URL: http://www.national.com/pf/LM/LMV339.html; ComponentLink3Description: MTC14 Package Page; ComponentLink3URL: http://www.national.com/packaging/folders/mtc14.html
footprint MTC14_N (TSOP, 14-Leads, Body 5x4.4mm, Pitch 0.65mm, IPC Medium Density)
footprint MTC14_L (TSOP, 14-Leads, Body 5x4.4mm, Pitch 0.65mm, IPC High Density)
footprint MTC14_M (TSOP, 14-Leads, Body 5x4.4mm, Pitch 0.65mm, IPC Low Density)
pins on every part: 3 V+ (power), 12 V- (power)
part A pins: 2 OUTA (out), 4 INA- (in), 5 INA+ (in)
part B pins: 1 OUTB (out), 6 INB- (in), 7 INB+ (in)
part C pins: 8 INC- (in), 9 INC+ (in), 14 OUTC (out)
part D pins: 10 IND- (in), 11 IND+ (in), 13 OUTD (out)

## LMV339MX
designator U?
Quad General Purpose, Low Voltage, Tiny Pack Comparator, 14-pin Narrow SOIC; PartNumber: LMV339MX; Manufacturer: National Semiconductor; PackageTopMarking: NSUZXYTTE#*LMV339M; PowerWise: Y; Published: 4-Dec-2008; DatasheetVersion: May-2007; PackageVersion: revJ, Jan-1996; PackageReference: M14A; Publisher: Altium Limited; PackageDescription: Molded Package S.O., .150in Wide, 14 Lead; RoHS: N; PinCount: 14; CompType: Comparator; Code_JEDEC: MS-012AB; Code_IPC: SOIC127P600-14; ComponentLink1Description: LMV339 Datasheet; ComponentLink1URL: http://www.national.com/ds/LM/LMV339.pdf; ComponentLink2Description: LMV339 Web Page; ComponentLink2URL: http://www.national.com/pf/LM/LMV339.html; ComponentLink3Description: M14A Package Page; ComponentLink3URL: http://www.national.com/packaging/folders/m14a.html
footprint M14A_N (SOIC, 14-Leads, Body 8.6x3.9mm, Pitch 1.27mm, IPC Medium Density)
footprint M14A_L (SOIC, 14-Leads, Body 8.6x3.9mm, Pitch 1.27mm, IPC High Density)
footprint M14A_M (SOIC, 14-Leads, Body 8.6x3.9mm, Pitch 1.27mm, IPC Low Density)
pins on every part: 3 V+ (power), 12 V- (power)
part A pins: 2 OUTA (out), 4 INA- (in), 5 INA+ (in)
part B pins: 1 OUTB (out), 6 INB- (in), 7 INB+ (in)
part C pins: 8 INC- (in), 9 INC+ (in), 14 OUTC (out)
part D pins: 10 IND- (in), 11 IND+ (in), 13 OUTD (out)

## LMV393MMX
designator U?
Dual General Purpose, Low Voltage, Tiny Pack Comparator, 8-pin Mini SOIC; PartNumber: LMV393MMX; Manufacturer: National Semiconductor; PackageTopMarking: ZXTT*V393; PowerWise: Y; Published: 4-Dec-2008; DatasheetVersion: May-2007; PackageVersion: revF, Apr-2008; PackageReference: MUA08A; Publisher: Altium Limited; PackageDescription: MINI SOIC, .118 x .118 x .034in, 8 Lead, .0256in Pitch; RoHS: N; PinCount: 8; CompType: Comparator; Code_JEDEC: MO-187-AA; ComponentLink1Description: LMV393 Datasheet; ComponentLink1URL: http://www.national.com/ds/LM/LMV393.pdf; ComponentLink2Description: LMV393 Web Page; ComponentLink2URL: http://www.national.com/pf/LM/LMV393.html; ComponentLink3Description: MUA08A Package Page; ComponentLink3URL: http://www.national.com/packaging/folders/mua08a.html
footprint MUA08A_N (TSOP, 8-Leads, Body 3x3mm, Pitch 0.65mm, IPC Medium Density)
footprint MUA08A_L (TSOP, 8-Leads, Body 3x3mm, Pitch 0.65mm, IPC High Density)
footprint MUA08A_M (TSOP, 8-Leads, Body 3x3mm, Pitch 0.65mm, IPC Low Density)
pins on every part: 4 V- (power), 8 V+ (power)
part A pins: 1 OUTA (out), 2 INA- (in), 3 INA+ (in)
part B pins: 5 INB+ (in), 6 INB- (in), 7 OUTB (out)

## LMV393MX
designator U?
Dual General Purpose, Low Voltage, Tiny Pack Comparator, 8-pin Narrow SOIC; PartNumber: LMV393MX; Manufacturer: National Semiconductor; PackageTopMarking: NSZXTT*LMV*393M; PowerWise: Y; Published: 4-Dec-2008; DatasheetVersion: May-2007; PackageVersion: revM, May-2009; PackageReference: M08A; Publisher: Altium Limited; PackageDescription: SOIC Narrow, 4.9 x 3.9 x 1.45mm, 8 Lead, 1.27mm Pitch; RoHS: N; PinCount: 8; CompType: Comparator; Code_JEDEC: MS-012-AA; Code_IPC: SOIC127P600-8; ComponentLink1Description: LMV393 Datasheet; ComponentLink1URL: http://www.national.com/ds/LM/LMV393.pdf; ComponentLink2Description: LMV393 Web Page; ComponentLink2URL: http://www.national.com/pf/LM/LMV393.html; ComponentLink3Description: M08A Package Page; ComponentLink3URL: http://www.national.com/packaging/folders/m08a.html
footprint M08A_N (SOIC, 8-Leads, Body 4.9x3.9mm, Pitch 1.27mm, IPC Medium Density)
footprint M08A_L (SOIC, 8-Leads, Body 4.9x3.9mm, Pitch 1.27mm, IPC High Density)
footprint M08A_M (SOIC, 8-Leads, Body 4.9x3.9mm, Pitch 1.27mm, IPC Low Density)
pins on every part: 4 V- (power), 8 V+ (power)
part A pins: 1 OUTA (out), 2 INA- (in), 3 INA+ (in)
part B pins: 5 INB+ (in), 6 INB- (in), 7 OUTB (out)

## LMV761MAX
designator U?
Low Voltage, Precision Comparator with Push-Pull Output, 8-pin Narrow SOIC; PartNumber: LMV761MAX; Manufacturer: National Semiconductor; PackageTopMarking: NSZXTT*LMV76*1MA; PowerWise: N; Published: 4-Dec-2008; DatasheetVersion: Oct-2008; PackageVersion: revM, May-2009; PackageReference: M08A; Publisher: Altium Limited; PackageDescription: SOIC Narrow, 4.9 x 3.9 x 1.45mm, 8 Lead, 1.27mm Pitch; RoHS: N; PinCount: 8; CompType: Comparator; Code_JEDEC: MS-012-AA; Code_IPC: SOIC127P600-8; ComponentLink1Description: LMV761 Datasheet; ComponentLink1URL: http://www.national.com/ds/LM/LMV761.pdf; ComponentLink2Description: LMV761 Web Page; ComponentLink2URL: http://www.national.com/pf/LM/LMV761.html; ComponentLink3Description: M08A Package Page; ComponentLink3URL: http://www.national.com/packaging/folders/m08a.html
footprint M08A_N (SOIC, 8-Leads, Body 4.9x3.9mm, Pitch 1.27mm, IPC Medium Density)
footprint M08A_L (SOIC, 8-Leads, Body 4.9x3.9mm, Pitch 1.27mm, IPC High Density)
footprint M08A_M (SOIC, 8-Leads, Body 4.9x3.9mm, Pitch 1.27mm, IPC Low Density)
pins: 1 NC, 2 IN- (in), 3 IN+ (in), 4 V- (power), 5 ~{SD}, 6 OUT (out), 7 V+ (power), 8 NC

## LMV761MAX/NOPB
designator U?
Low Voltage, Precision Comparator with Push-Pull Output, 8-pin Narrow SOIC, Pb-Free; PartNumber: LMV761MAX/NOPB; Manufacturer: National Semiconductor; PackageTopMarking: NSZXTT*LMV76*1MA; PowerWise: N; Published: 1-Mar-2010; DatasheetVersion: Oct-2008; PackageVersion: revM, May-2009; PackageReference: M08A; Publisher: Altium Limited; PackageDescription: SOIC Narrow, 4.9 x 3.9 x 1.45mm, 8 Lead, 1.27mm Pitch; Supplier 1: Digi-Key; Supplier Part Number 1: LMV761MAX-ND; RoHS: Y; PinCount: 8; CompType: Comparator; Code_JEDEC: MS-012-AA; Code_IPC: SOIC127P600-8; ComponentLink1Description: LMV761 Datasheet; ComponentLink1URL: http://www.national.com/ds/LM/LMV761.pdf; ComponentLink2Description: LMV761 Web Page; ComponentLink2URL: http://www.national.com/pf/LM/LMV761.html; ComponentLink3Description: M08A Package Page; ComponentLink3URL: http://www.national.com/packaging/folders/m08a.html
footprint M08A_N (SOIC, 8-Leads, Body 4.9x3.9mm, Pitch 1.27mm, IPC Medium Density)
footprint M08A_L (SOIC, 8-Leads, Body 4.9x3.9mm, Pitch 1.27mm, IPC High Density)
footprint M08A_M (SOIC, 8-Leads, Body 4.9x3.9mm, Pitch 1.27mm, IPC Low Density)
pins: 1 NC, 2 IN- (in), 3 IN+ (in), 4 V- (power), 5 ~{SD}, 6 OUT (out), 7 V+ (power), 8 NC

## LMV761MFX
designator U?
Low Voltage, Precision Comparator with Push-Pull Output, 6-pin SOT-23; PartNumber: LMV761MFX; Manufacturer: National Semiconductor; PackageTopMarking: C22A*XTT; PowerWise: N; Published: 4-Dec-2008; DatasheetVersion: Oct-2008; PackageVersion: revC, Sep-2005; PackageReference: MF06A; Publisher: Altium Limited; PackageDescription: Molded SOT-23, .115 x .063 x .040in Body, 6 Lead, .0375in in Pitch; RoHS: N; PinCount: 6; CompType: Comparator; Code_JEDEC: MO-178-AB; Code_IPC: SOT26A-6; ComponentLink1Description: LMV761 Datasheet; ComponentLink1URL: http://www.national.com/ds/LM/LMV761.pdf; ComponentLink2Description: LMV761 Web Page; ComponentLink2URL: http://www.national.com/pf/LM/LMV761.html; ComponentLink3Description: MF06A Package Page; ComponentLink3URL: http://www.national.com/packaging/folders/mf06a.html
footprint MF06A_N (SOT23, 6-Leads, Body 2.9x1.6mm, Pitch 0.95mm, Lead Span 2.8mm, IPC Medium Density)
footprint MF06A_L (SOT23, 6-Leads, Body 2.9x1.6mm, Pitch 0.95mm, Lead Span 2.8mm, IPC High Density)
footprint MF06A_M (SOT23, 6-Leads, Body 2.9x1.6mm, Pitch 0.95mm, Lead Span 2.8mm, IPC Low Density)
pins: 1 IN+ (in), 2 V- (power), 3 IN- (in), 4 OUT (out), 5 ~{SD}, 6 V+ (power)

## LMV761MFX/NOPB
designator U?
Low Voltage, Precision Comparator with Push-Pull Output, 6-pin SOT-23, Pb-Free; PartNumber: LMV761MFX/NOPB; Manufacturer: National Semiconductor; PackageTopMarking: C22A*XTT; PowerWise: N; Published: 1-Mar-2010; DatasheetVersion: Oct-2008; PackageVersion: revC, Sep-2005; PackageReference: MF06A; Publisher: Altium Limited; PackageDescription: Molded SOT-23, .115 x .063 x .040in Body, 6 Lead, .0375in in Pitch; Supplier 1: Digi-Key; Supplier Part Number 1: LMV761MFX-ND; RoHS: Y; PinCount: 6; CompType: Comparator; Code_JEDEC: MO-178-AB; Code_IPC: SOT26A-6; ComponentLink1Description: LMV761 Datasheet; ComponentLink1URL: http://www.national.com/ds/LM/LMV761.pdf; ComponentLink2Description: LMV761 Web Page; ComponentLink2URL: http://www.national.com/pf/LM/LMV761.html; ComponentLink3Description: MF06A Package Page; ComponentLink3URL: http://www.national.com/packaging/folders/mf06a.html
footprint MF06A_N (SOT23, 6-Leads, Body 2.9x1.6mm, Pitch 0.95mm, Lead Span 2.8mm, IPC Medium Density)
footprint MF06A_L (SOT23, 6-Leads, Body 2.9x1.6mm, Pitch 0.95mm, Lead Span 2.8mm, IPC High Density)
footprint MF06A_M (SOT23, 6-Leads, Body 2.9x1.6mm, Pitch 0.95mm, Lead Span 2.8mm, IPC Low Density)
pins: 1 IN+ (in), 2 V- (power), 3 IN- (in), 4 OUT (out), 5 ~{SD}, 6 V+ (power)

## LMV762MAX
designator U?
Low Voltage, Precision Comparator with Push-Pull Output, 8-pin Narrow SOIC; PartNumber: LMV762MAX; Manufacturer: National Semiconductor; PackageTopMarking: NSZXTT*LMV7*62MA; PowerWise: N; Published: 4-Dec-2008; DatasheetVersion: Oct-2008; PackageVersion: revM, May-2009; PackageReference: M08A; Publisher: Altium Limited; PackageDescription: SOIC Narrow, 4.9 x 3.9 x 1.45mm, 8 Lead, 1.27mm Pitch; RoHS: N; PinCount: 8; CompType: Comparator; Code_JEDEC: MS-012-AA; Code_IPC: SOIC127P600-8; ComponentLink1Description: LMV762 Datasheet; ComponentLink1URL: http://www.national.com/ds/LM/LMV762.pdf; ComponentLink2Description: LMV762 Web Page; ComponentLink2URL: http://www.national.com/pf/LM/LMV762.html; ComponentLink3Description: M08A Package Page; ComponentLink3URL: http://www.national.com/packaging/folders/m08a.html
footprint M08A_N (SOIC, 8-Leads, Body 4.9x3.9mm, Pitch 1.27mm, IPC Medium Density)
footprint M08A_L (SOIC, 8-Leads, Body 4.9x3.9mm, Pitch 1.27mm, IPC High Density)
footprint M08A_M (SOIC, 8-Leads, Body 4.9x3.9mm, Pitch 1.27mm, IPC Low Density)
pins on every part: 4 V- (power), 8 V+ (power)
part A pins: 1 OUTA (out), 2 INA- (in), 3 INA+ (in)
part B pins: 5 INB+ (in), 6 INB- (in), 7 OUTB (out)

## LMV762MMX
designator U?
Low Voltage, Precision Comparator with Push-Pull Output, 8-pin Mini SOIC; PartNumber: LMV762MMX; Manufacturer: National Semiconductor; PackageTopMarking: ZXTT*C23A; PowerWise: N; Published: 4-Dec-2008; DatasheetVersion: Oct-2008; PackageVersion: revF, Apr-2008; PackageReference: MUA08A; Publisher: Altium Limited; PackageDescription: MINI SOIC, .118 x .118 x .034in, 8 Lead, .0256in Pitch; RoHS: N; PinCount: 8; CompType: Comparator; Code_JEDEC: MO-187-AA; ComponentLink1Description: LMV762 Datasheet; ComponentLink1URL: http://www.national.com/ds/LM/LMV762.pdf; ComponentLink2Description: LMV762 Web Page; ComponentLink2URL: http://www.national.com/pf/LM/LMV762.html; ComponentLink3Description: MUA08A Package Page; ComponentLink3URL: http://www.national.com/packaging/folders/mua08a.html
footprint MUA08A_N (TSOP, 8-Leads, Body 3x3mm, Pitch 0.65mm, IPC Medium Density)
footprint MUA08A_L (TSOP, 8-Leads, Body 3x3mm, Pitch 0.65mm, IPC High Density)
footprint MUA08A_M (TSOP, 8-Leads, Body 3x3mm, Pitch 0.65mm, IPC Low Density)
pins on every part: 4 V- (power), 8 V+ (power)
part A pins: 1 OUTA (out), 2 INA- (in), 3 INA+ (in)
part B pins: 5 INB+ (in), 6 INB- (in), 7 OUTB (out)

## LMV7219M5X
designator U?
7 nsec, 2.7V to 5V Comparator with Rail-to- Rail Output, 5-pin SOT-23; PartNumber: LMV7219M5X; Manufacturer: National Semiconductor; PackageTopMarking: C14A*XTT; PowerWise: Y; Published: 4-Dec-2008; DatasheetVersion: Nov-2004; PackageVersion: revD, Aug-2008; PackageReference: MF05A; Publisher: Altium Limited; PackageDescription: Molded SOT-23, .115 x .063 x .040 in Body, 5 Lead, .0375 in Pitch; RoHS: N; PinCount: 5; CompType: Comparator; ComponentLink1Description: LMV7219 Datasheet; ComponentLink1URL: http://www.national.com/ds/LM/LMV7219.pdf; ComponentLink2Description: LMV7219 Web Page; ComponentLink2URL: http://www.national.com/pf/LM/LMV7219.html; ComponentLink3Description: MF05A Package Page; ComponentLink3URL: http://www.national.com/packaging/folders/mf05a.html
footprint MF05A_N (SOT23, 5-Leads, Body 2.9x1.6mm, Pitch 0.95mm, Lead Span 2.8mm, IPC Medium Density)
footprint MF05A_L (SOT23, 5-Leads, Body 2.9x1.6mm, Pitch 0.95mm, Lead Span 2.8mm, IPC High Density)
footprint MF05A_M (SOT23, 5-Leads, Body 2.9x1.6mm, Pitch 0.95mm, Lead Span 2.8mm, IPC Low Density)
pins: 1 OUT (out), 2 V- (power), 3 IN+ (in), 4 IN- (in), 5 V+ (power)

## LMV7219M7X
designator U?
7 nsec, 2.7V to 5V Comparator with Rail-to- Rail Output, 5-pin SC-70; PartNumber: LMV7219M7X; Manufacturer: National Semiconductor; PackageTopMarking: C15*XTT; PowerWise: Y; Published: 4-Dec-2008; DatasheetVersion: Nov-2004; PackageVersion: revD, Jun-2007; PackageReference: MAA05A; Publisher: Altium Limited; PackageDescription: Molded SC-70, 2 x 1.25 x .9mm, 5 Lead, 0.65mm Pitch; RoHS: N; PinCount: 5; CompType: Comparator; Code_JEITA: SC-88A; Code_JEDEC: MO-203-AA; Code_IPC: SOT353-5; ComponentLink1Description: LMV7219 Datasheet; ComponentLink1URL: http://www.national.com/ds/LM/LMV7219.pdf; ComponentLink2Description: LMV7219 Web Page; ComponentLink2URL: http://www.national.com/pf/LM/LMV7219.html; ComponentLink3Description: MAA05A Package Page; ComponentLink3URL: http://www.national.com/packaging/folders/maa05a.html
footprint MAA05A_N (SOT353, 5-Leads, Body 2x1.3mm, Pitch 0.65mm, Lead Span 2.1mm, IPC Medium Density)
footprint MAA05A_L (SOT353, 5-Leads, Body 2x1.3mm, Pitch 0.65mm, Lead Span 2.1mm, IPC High Density)
footprint MAA05A_M (SOT353, 5-Leads, Body 2x1.3mm, Pitch 0.65mm, Lead Span 2.1mm, IPC Low Density)
pins: 1 OUT (out), 2 V- (power), 3 IN+ (in), 4 IN- (in), 5 V+ (power)

## LMV7235M5X
designator U?
45 nsec, Ultra Low Power, Low Voltage, Rail-toRail Input Comparator with Open-Drain/Push-Pull Output, 5-pin SOT-23; PartNumber: LMV7235M5X; Manufacturer: National Semiconductor; PackageTopMarking: C21A*XTT; PowerWise: Y; Published: 4-Dec-2008; DatasheetVersion: Jul-2008; PackageVersion: revD, Aug-2008; PackageReference: MF05A; Publisher: Altium Limited; PackageDescription: Molded SOT-23, .115 x .063 x .040 in Body, 5 Lead, .0375 in Pitch; RoHS: N; PinCount: 5; CompType: Comparator; ComponentLink1Description: LMV7235 Datasheet; ComponentLink1URL: http://www.national.com/ds/LM/LMV7235.pdf; ComponentLink2Description: LMV7235 Web Page; ComponentLink2URL: http://www.national.com/pf/LM/LMV7235.html; ComponentLink3Description: MF05A Package Page; ComponentLink3URL: http://www.national.com/packaging/folders/mf05a.html
footprint MF05A_N (SOT23, 5-Leads, Body 2.9x1.6mm, Pitch 0.95mm, Lead Span 2.8mm, IPC Medium Density)
footprint MF05A_L (SOT23, 5-Leads, Body 2.9x1.6mm, Pitch 0.95mm, Lead Span 2.8mm, IPC High Density)
footprint MF05A_M (SOT23, 5-Leads, Body 2.9x1.6mm, Pitch 0.95mm, Lead Span 2.8mm, IPC Low Density)
pins: 1 VOUT (oc), 2 V- (power), 3 IN+ (in), 4 IN- (in), 5 V+ (power)

## LMV7235M7X
designator U?
45 nsec, Ultra Low Power, Low Voltage, Rail-toRail Input Comparator with Open-Drain/Push-Pull Output, 5-pin SC-70; PartNumber: LMV7235M7X; Manufacturer: National Semiconductor; PackageTopMarking: C21*XTT; PowerWise: Y; Published: 4-Dec-2008; DatasheetVersion: Jul-2008; PackageVersion: revD, Jun-2007; PackageReference: MAA05A; Publisher: Altium Limited; PackageDescription: Molded SC-70, 2 x 1.25 x .9mm, 5 Lead, 0.65mm Pitch; RoHS: N; PinCount: 5; CompType: Comparator; Code_JEITA: SC-88A; Code_JEDEC: MO-203-AA; Code_IPC: SOT353-5; ComponentLink1Description: LMV7235 Datasheet; ComponentLink1URL: http://www.national.com/ds/LM/LMV7235.pdf; ComponentLink2Description: LMV7235 Web Page; ComponentLink2URL: http://www.national.com/pf/LM/LMV7235.html; ComponentLink3Description: MAA05A Package Page; ComponentLink3URL: http://www.national.com/packaging/folders/maa05a.html
footprint MAA05A_N (SOT353, 5-Leads, Body 2x1.3mm, Pitch 0.65mm, Lead Span 2.1mm, IPC Medium Density)
footprint MAA05A_L (SOT353, 5-Leads, Body 2x1.3mm, Pitch 0.65mm, Lead Span 2.1mm, IPC High Density)
footprint MAA05A_M (SOT353, 5-Leads, Body 2x1.3mm, Pitch 0.65mm, Lead Span 2.1mm, IPC Low Density)
pins: 1 VOUT (oc), 2 V- (power), 3 IN+ (in), 4 IN- (in), 5 V+ (power)

## LMV7239M5X
designator U?
45 nsec, Ultra Low Power, Low Voltage, Rail-to-Rail Input Comparator with Open-Drain/Push-Pull Output, 5-pin SOT-23; PartNumber: LMV7239M5X; Manufacturer: National Semiconductor; PackageTopMarking: C20A*XTT; PowerWise: Y; Published: 4-Dec-2008; DatasheetVersion: Jul-2008; PackageVersion: revD, Aug-2008; PackageReference: MF05A; Publisher: Altium Limited; PackageDescription: Molded SOT-23, .115 x .063 x .040 in Body, 5 Lead, .0375 in Pitch; RoHS: N; PinCount: 5; CompType: Comparator; ComponentLink1Description: LMV7239 Datasheet; ComponentLink1URL: http://www.national.com/ds/LM/LMV7239.pdf; ComponentLink2Description: LMV7239 Web Page; ComponentLink2URL: http://www.national.com/pf/LM/LMV7239.html; ComponentLink3Description: MF05A Package Page; ComponentLink3URL: http://www.national.com/packaging/folders/mf05a.html
footprint MF05A_N (SOT23, 5-Leads, Body 2.9x1.6mm, Pitch 0.95mm, Lead Span 2.8mm, IPC Medium Density)
footprint MF05A_L (SOT23, 5-Leads, Body 2.9x1.6mm, Pitch 0.95mm, Lead Span 2.8mm, IPC High Density)
footprint MF05A_M (SOT23, 5-Leads, Body 2.9x1.6mm, Pitch 0.95mm, Lead Span 2.8mm, IPC Low Density)
pins: 1 VOUT (oc), 2 V- (power), 3 IN+ (in), 4 IN- (in), 5 V+ (power)